# Altium footprint library RESC640X320X90L90N.PcbLib: 1 footprints
Each footprint in its own frame and in the unit in brackets; x right, y up, seen from the top. Pads: shape width x height; smd on the part's side, far side on the other; paste and mask are expansions set on the pad; w line width, h text height; cw(c..) or ccw(c..) is an arc to the next point about the centre after c.
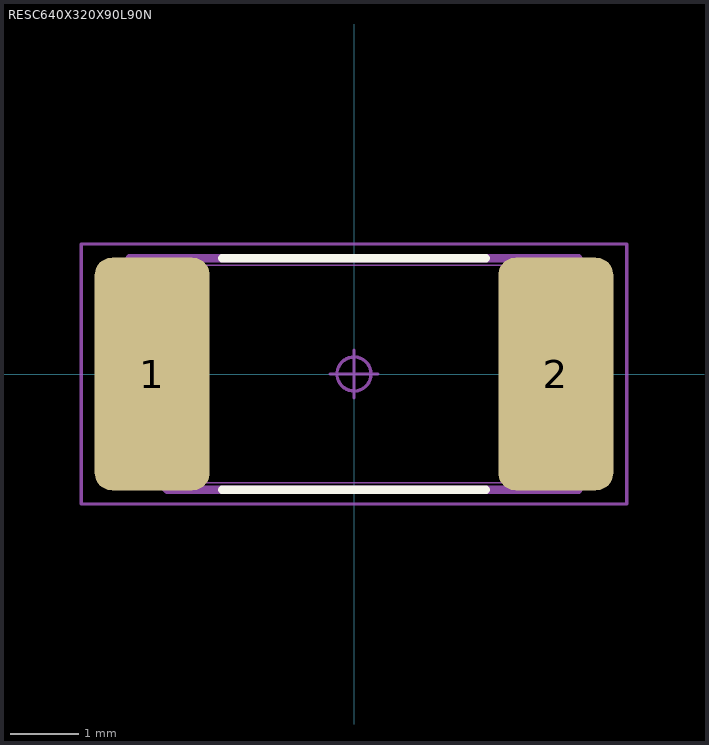
[diagram p0: the footprint, top view; thin cyan lines are the x and y axes]

## RESC640X320X90L90N [mm] "Resistor, Chip; 6.40 mm L X 3.20 mm W X 0.90 mm H body"
height 0.9
pads (2):
  rrect30% 1.69x3.42 smd: 1(-2.965,0) 2(2.965,0)
Top Overlay:
  lines w0.12: -1.94,-1.7 1.94,-1.7 ; -1.94,1.7 1.94,1.7
Mechanical 3:
  lines w0.12: -3.3,-1.145 -2.745,-1.7 3.3,-1.7 3.3,1.7 -3.3,1.7 -3.3,-1.145
Mechanical 5:
  lines w0.025: -3.2,-1.6 -2.3,-1.6 -2.3,1.6 -3.2,1.6 ; -3.2,-1.6 -3.2,1.6 ; -3.2,-1.6 -3.2,1.6 ; -3.2,-1.6 3.2,-1.6 ; -3.2,1.6 3.2,1.6 ; 3.2,-1.6 3.2,1.6 ; 3.2,-1.6 2.3,-1.6 2.3,1.6 3.2,1.6 ; 3.2,-1.6 3.2,1.6
Mechanical 7:
  circle w0.05: c0,0 r0.25
  lines w0.05: -0.35,0 0.35,0 ; 0,-0.35 0,0.35 ; -4.01,-1.91 -4.01,1.91 4.01,1.91 4.01,-1.91 -4.01,-1.91
Mechanical 9:
  text "'.Designator'" at -5.588,-0.381 h1
3D body "RESC640X320X90L90.STEP": height 0.9, standoff 0, extent -3.2,-1.6 3.2,1.6
3D body: height 1, standoff 0, extent -4.01,-1.91 4.01,1.91